# Altium schematic symbol library TLP250.SchLib: 1 symbol
Pins are listed as number, name and electrical type; pins without a type are passive.

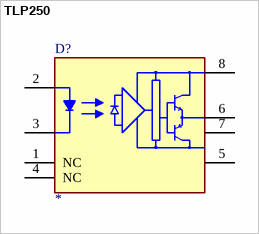
[diagram p0: symbol TLP250]

## TLP250
designator D?
Logic Output Optoisolator - Push-Pull, Totem Pole 3750Vrms 1 Channel 40kV/Âµs CMTI 8-SMD; MF: Toshiba Semiconductor; MP: TLP250; SnapEDA_Link: https://www.snapeda.com/parts/TLP250/Toshiba+Semiconductor+and+Storage/view-part/?ref=snap; Package: DIP-8 Toshiba; Value: *; Check_prices: https://www.snapeda.com/parts/TLP250/Toshiba+Semiconductor+and+Storage/view-part/?ref=eda
footprint TLP250
pins: 1 NC, 2 ANODE, 3 CATHODE, 4 NC, 5 GND (power), 6 VO, 7 VO, 8 VCC (power)